# Altium footprint library LCD.PcbLib: 5 footprints
Each footprint in its own frame and in the unit in brackets; x right, y up, seen from the top. Pads: shape width x height; smd on the part's side, far side on the other; paste and mask are expansions set on the pad; w line width, h text height; cw(c..) or ccw(c..) is an arc to the next point about the centre after c.
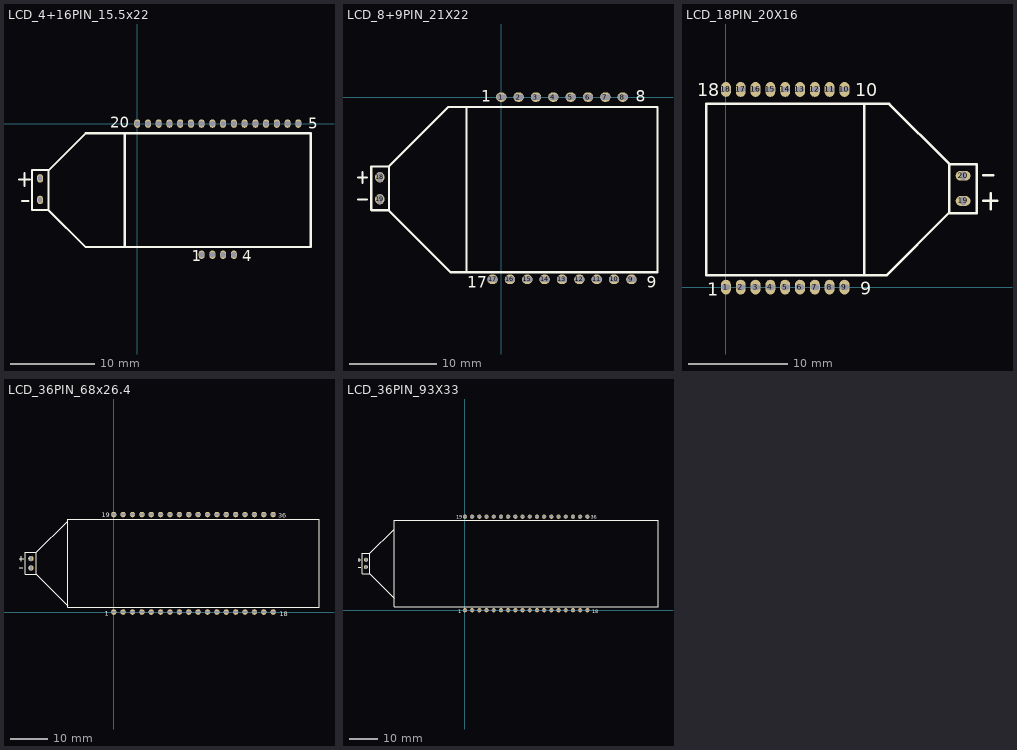
[diagram p0: the footprints below, top view; thin cyan lines are the x and y axes]

## LCD_4+16PIN_15.5x22 [mm] "XT-3195HTN"
pads (22):
  oval 0.7x1 hole 0.6: 1(7.62,-15.5) 2(8.89,-15.5) 3(10.16,-15.5) 4(11.43,-15.5) 5(19.05,0) 6(17.78,0) 7(16.51,0) 8(15.24,0) 9(13.97,0) 10(12.7,0) 11(11.43,0) 12(10.16,0) 13(8.89,0) 14(7.62,0) 15(6.35,0) 16(5.08,0) 17(3.81,0) 18(2.54,0) 19(1.27,0) 20(0,0)
  oval 0.7x1 hole 0.6 slot 0.4 at 0 deg: 21(-11.475,-6.48) 22(-11.475,-9.02)
Top Overlay:
  lines w0.254: -13.97,-6.604 -12.7,-6.604 ; -13.589,-9.144 -12.827,-9.144 ; -13.335,-7.366 -13.335,-5.842 ; -12.446,-5.539 -12.446,-8.255 -12.446,-10.226 -10.475,-10.226 ; -12.407,-5.5 -10.475,-5.5 ; -10.475,-10.226 -10.475,-10 -10.475,-5.5 ; -10.475,-10.226 -6.096,-14.605 -1.475,-14.605 ; -10.475,-5.5 -10.453,-5.5 ; -10.475,-5.5 -10.453,-5.5 ; -10.453,-5.5 -6.096,-1.143 -1.475,-1.143 ; -1.475,-14.605 20.525,-14.605 20.525,-1.143 -1.475,-1.143 ; -1.475,-14.605 -1.475,-1.143
  text "20" at -3.175,-0.508 h1.3
  text "5" at 20.193,-0.635 h1.3
  text "4" at 12.446,-16.256 h1.3
  text "1" at 6.477,-16.256 h1.3

## LCD_8+9PIN_21X22 [mm] "XT-1320STN"
pads (19):
  oval 1.2x1.1 hole 0.6 slot 1.1 at 0 deg: 1(0,0) 2(2,0) 3(4,0) 4(6,0) 5(8,0) 6(10,0) 7(12,0) 8(14,0) 9(15,-21) 10(13,-21) 11(11,-21) 12(9,-21) 13(7,-21) 14(5,-21) 15(3,-21) 16(1,-21) 17(-1,-21)
  oval 1.1x1.2 hole 0.6 slot 1.1 at 90 deg: 18(-14,-9.23) 19(-14,-11.77)
Top Overlay:
  lines w0.254: -16.51,-11.811 -15.494,-11.811 ; -16.51,-9.271 -15.494,-9.271 ; -16.002,-9.906 -16.002,-8.636 ; -13,-13 -13,-13.035 ; -13,-8 -12.953,-8 ; -12.953,-13 -12.953,-8 ; -13,-13.035 -14.94,-13.035 -14.986,-12.989 -14.986,-8.001 -14.985,-8 -12.953,-8 ; -13,-13.035 -5.969,-20.066 -5.842,-20.193 -4,-20.193 ; -12.953,-8 -6.096,-1.143 -4,-1.143 ; -4,-20.193 -4,-1.143 ; -4,-20.193 18,-20.193 18,-1.143 -4,-1.143
  text "1" at -2.286,-0.508 h1.3
  text "8" at 15.494,-0.508 h1.3
  text "9" at 16.764,-21.971 h1.3
  text "17" at -3.937,-21.971 h1.3

## LCD_18PIN_20X16 [mm] "XT-1366HTN"
pads (20):
  oval 1x1.5 hole 0.5 slot 0.85 at 0 deg: 1(0,0) 2(1.5,0) 3(3,0) 4(4.5,0) 5(6,0) 6(7.5,0) 7(9,0) 8(10.5,0) 9(12,0) 10(12,20) 11(10.5,20) 12(9,20) 13(7.5,20) 14(6,20) 15(4.5,20) 16(3,20) 17(1.5,20) 18(0,20)
  oval 1.5x1 hole 0.5 slot 0.85 at 90 deg: 19(24,8.73) 20(24,11.27)
Top Overlay:
  lines w0.254: 26.035,8.763 27.432,8.763 ; 26.035,11.303 27.051,11.303 ; 26.797,7.874 26.797,9.525 ; 14,1.2 -2,1.2 -2,18.542 14,18.542 ; 14,1.2 14,18.542 ; 14,1.2 16.256,1.2 22.549,7.493 22.606,7.493 ; 14,18.542 16.51,18.542 22.606,12.446 ; 22.606,7.493 22.606,12.446 ; 22.606,7.493 25.4,7.493 25.4,12.446 22.606,12.446
  text "18" at -2.921,19.304 h1.3
  text "10" at 13.081,19.304 h1.3
  text "9" at 13.589,-0.762 h1.3
  text "1" at -1.905,-0.889 h1.3

## LCD_36PIN_68x26.4 [mm] "XT-3051VA"
pads (38):
  oval 1.4x1.5 hole 0.5 slot 1.35 at 0 deg: 1(0,0) 2(2.54,0) 3(5.08,0) 4(7.62,0) 5(10.16,0) 6(12.7,0) 7(15.24,0) 8(17.78,0) 9(20.32,0) 10(22.86,0) 11(25.4,0) 12(27.94,0) 13(30.48,0) 14(33.02,0) 15(35.56,0) 16(38.1,0) 17(40.64,0) 18(43.18,0) 19(0,26.4) 20(2.54,26.4) 21(5.08,26.4) 22(7.62,26.4) 23(10.16,26.4) 24(12.7,26.4) 25(15.24,26.4) 26(17.78,26.4) 27(20.32,26.4) 28(22.86,26.4) 29(25.4,26.4) 30(27.94,26.4) 31(30.48,26.4) 32(33.02,26.4) 33(35.56,26.4) 34(38.1,26.4) 35(40.64,26.4) 36(43.18,26.4)
  oval 1.5x1.4 hole 0.5 slot 1.35 at 90 deg: 37(-22.41,14.47) 38(-22.41,11.93)
Top Overlay:
  lines w0.254: -25.654,14.478 -24.384,14.478 ; -25.527,11.938 -24.638,11.938 ; -25.019,13.716 -25.019,15.113 ; -12.446,1.651 -20.955,10.16 ; -12.41,24.638 -20.919,16.129 -20.955,16.129 ; -20.955,10.16 -20.955,16.129 ; -20.955,10.16 -24.003,10.16 -24.003,15.875 -24.003,16.129 -20.955,16.129 ; -12.41,1.27 -12.41,25.146 55.59,25.146 55.59,1.27 -12.41,1.27
  text "19" at -3.302,25.654 h1.3
  text "36" at 44.577,25.527 h1.3
  text "18" at 44.958,-1.143 h1.3
  text "1" at -2.413,-1.016 h1.3

## LCD_36PIN_93X33 [mm] "XT-3029"
pads (38):
  oval 1.4x1.5 hole 0.5 slot 1.35 at 0 deg: 1(0,0) 2(2.54,0) 3(5.08,0) 4(7.62,0) 5(10.16,0) 6(12.7,0) 7(15.24,0) 8(17.78,0) 9(20.32,0) 10(22.86,0) 11(25.4,0) 12(27.94,0) 13(30.48,0) 14(33.02,0) 15(35.56,0) 16(38.1,0) 17(40.64,0) 18(43.18,0) 19(0,33) 20(2.54,33) 21(5.08,33) 22(7.62,33) 23(10.16,33) 24(12.7,33) 25(15.24,33) 26(17.78,33) 27(20.32,33) 28(22.86,33) 29(25.4,33) 30(27.94,33) 31(30.48,33) 32(33.02,33) 33(35.56,33) 34(38.1,33) 35(40.64,33) 36(43.18,33)
  oval 1.5x1.4 hole 0.5 slot 1.35 at 90 deg: 37(-34.91,17.77) 38(-34.91,15.23)
Top Overlay:
  lines w0.254: -37.719,17.78 -36.703,17.78 ; -37.592,15.24 -36.83,15.24 ; -37.211,17.145 -37.211,18.415 ; -24.965,28.63 -33.528,20.066 ; -24.91,4.191 -33.528,12.809 ; -33.528,12.809 -36.177,12.809 -36.195,12.827 -36.195,20.066 -33.528,20.066 ; -33.528,12.809 -33.528,13.716 -33.528,20.066 ; -24.91,1.143 -24.91,31.75 68.09,31.75 68.09,1.143 -24.91,1.143
  text "19" at -3.048,32.258 h1.3
  text "36" at 44.45,32.258 h1.3
  text "18" at 44.958,-1.143 h1.3
  text "1" at -2.413,-1.016 h1.3